# EAGLE library part BTN8982TA (library my-eagle-lib)
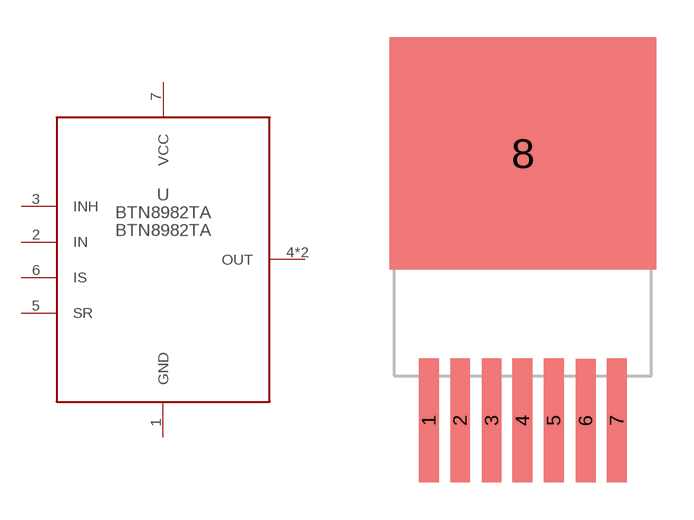
[diagram p1: symbol with the pads of TO-263-8; footprint TO-263-8]

Designator prefix -

## BTN8982TA  [TO-263-8]
1  GND
2  IN
3  INH
4  OUT
5  SR
6  IS
7  VCC
8  OUT

## Footprint TO-263-8 (pad centres in mm)
smd 0.8 x 5: 1 -3.8,-4.5; 2 -2.54,-4.5; 3 -1.26,-4.5; 4 -0.015,-4.5; 5 1.25,-4.5; 6 2.54,-4.51; 7 3.8,-4.5
smd 10.8 x 9.4: 8 0,6.3